# EAGLE library part AP7165-SPG-13 (library LunchBox48_ASIC_board)
DIODES inc. AP7165-SPG-13 1,2V 600mA LDO
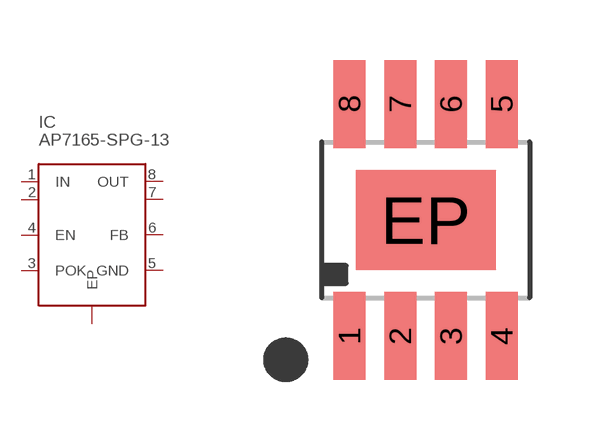
[diagram p5: symbol with the pads of SO-8_EP; footprint SO-8_EP]

Designator prefix IC

## AP7165-SPG-13  [SO-8_EP]
1  IN  pwr
2  IN1  pwr
3  POK  out
4  EN  in
5  GND  pwr
6  FB  in
7  OUT1  pwr
8  OUT  pwr
EP  EP  pwr

## Footprint SO-8_EP (pad centres in mm)
smd 0.8 x 2.2: 1 -1.905,-2.905; 2 -0.635,-2.905; 3 0.635,-2.905; 4 1.905,-2.905; 5 1.905,2.905; 6 0.635,2.905; 7 -0.635,2.905; 8 -1.905,2.905
smd 3.5 x 2.5: EP 0,0